# EAGLE library part RJ45_SINGLE (library PP_Connectors)
RJ45 Connectors - Single
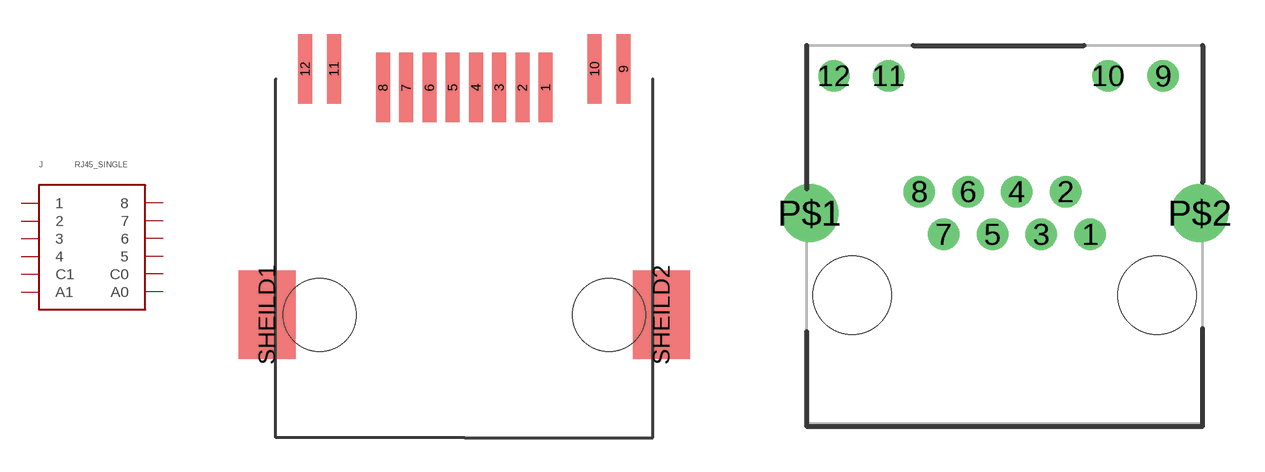
[diagram p2: symbol with the pads of RJCSE-538X; footprints RJCSE-538X, RJHSE-538X]

Designator prefix J

## RJ45_SINGLESMD  [RJCSE-538X]
1  1
2  2
3  3
4  4
5  5
6  6
7  7
8  8
9  C1
10  A1
11  C0
12  A0

## RJ45_SINGLEPTH  [RJHSE-538X]
1  1
2  2
3  3
4  4
5  5
6  6
7  7
8  8
9  C0
10  A0
11  C1
12  A1

## Footprint RJCSE-538X (pad centres in mm)
Mouser Part #: 523-RJCSE-5381-01 Manufacturer Part #: RJCSE-5381-01 Manufacturer: Amphenol Commercial Products Description: Ethernet & Telecom Connectors RJ45;8 contacts;sh RA TH;SMT w/LEDs
smd 0.61 x 3.05: 1 3.57,7.62; 2 2.55,7.62; 3 1.53,7.62; 4 0.51,7.62; 5 -0.51,7.62; 6 -1.53,7.62; 7 -2.55,7.62; 8 -3.57,7.62; 9 6.99,8.44; 10 5.72,8.44; 11 -5.72,8.44; 12 -6.99,8.44
smd 2.5 x 3.9: SHEILD1 -8.66,-2.36; SHEILD2 8.66,-2.36
hole 3.2 at 6.35,-2.36
hole 3.2 at -6.35,-2.36

## Footprint RJHSE-538X (pad centres in mm)
Mouser Part #: 523-RJHSE-5381 Manufacturer Part #: RJHSE-5381 Manufacturer: Amphenol Commercial Products Description: Ethernet & Telecom Connectors R/A RJ45 SHEILDED 8 CONT Y/G LEDS
drill 0.8: 1 3.556,2.54; 2 2.54,4.32; 3 1.524,2.54; 4 0.508,4.32; 5 -0.508,2.54; 6 -1.524,4.32; 7 -2.54,2.54; 8 -3.556,4.32; 9 6.604,9.14; 10 4.318,9.14; 11 -4.826,9.14; 12 -7.112,9.14
drill 1.6: P$1 -8.128,3.43; P$2 8.128,3.43
hole 3.251 at -6.35,0
hole 3.251 at 6.35,0